# Altium integrated library Linear Technology Power Management Battery Management.IntLib: 626 symbols (part 40 of 56)
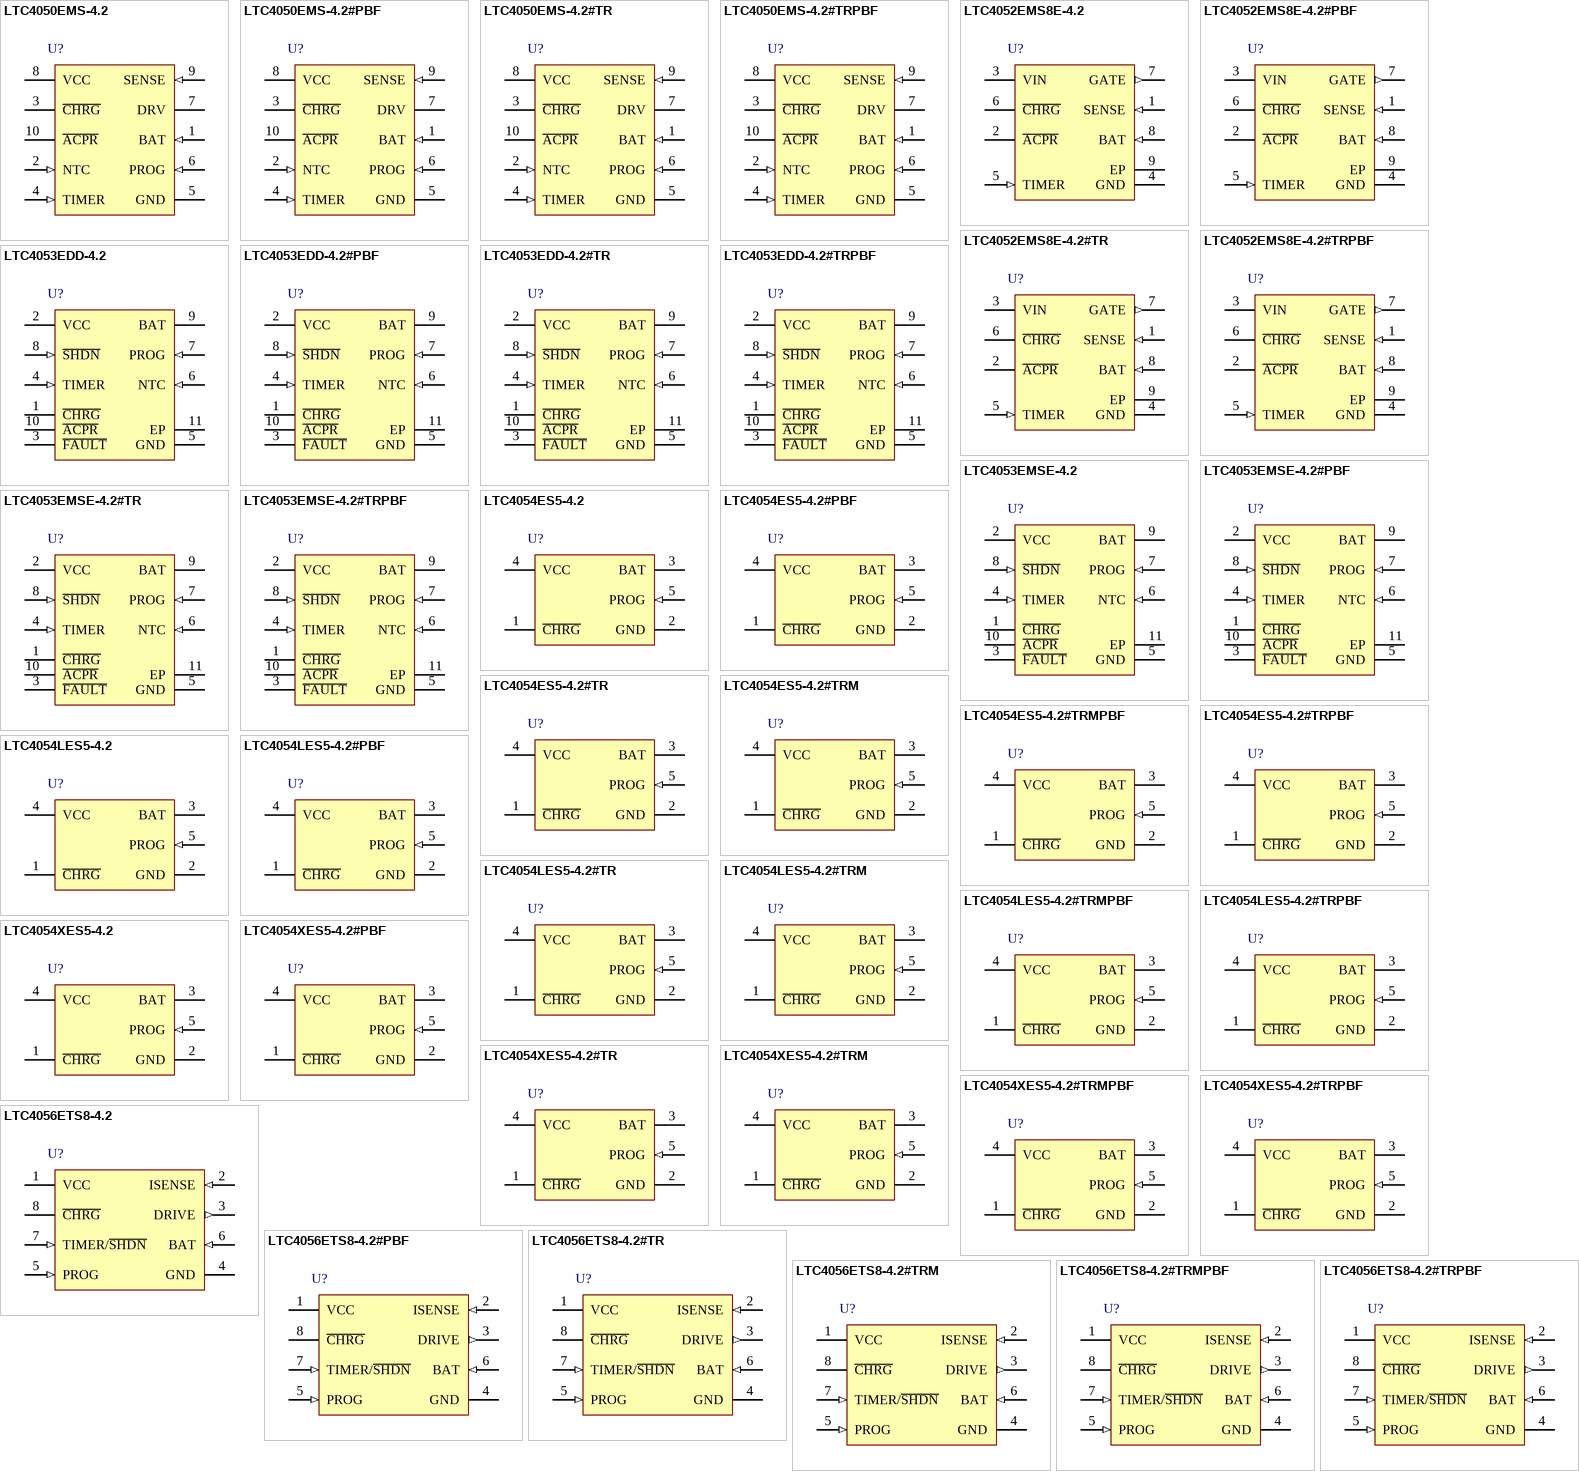
[diagram p61: symbols LTC4050EMS-4.2 to LTC4056ETS8-4.2#TRPBF]

## LTC4056ETS8-4.2#TR
designator U?
No Charging Interruption Due to Input Voltage Fluctuation, 4.5 to 6.5 V Vin, 8-pin SOT23 (TS8-8), -40 to 85 degC, Tape and Reel; Manufacturer: Linear Technology; PartNumber: LTC4056ETS8-4.2#TR; Battery Chemistry: Li-Ion, Li-Polymer; Charge Termination: On-board timer; Float Voltage: 4.2 V; Max Charge Current(A): 0.7; Number of Cells: 1; Type of Charger: Linear; Vin Max(V): 6.5; Vin Min(V): 4.5; PackageVersion: Rev. A, 08/2010; PackageReference: TS8-8; PackageDescription: 8-Pin Plastic TSOT-23, Body 2.9 x 1.63 mm, Pitch 0.65 mm; Supplier 1: Digi-Key; Supplier Part Number 1: LTC4056ETS8-4.2TR-ND; Packing: Tape and Reel; RoHS: FALSE; Mounting Technology: Surface Mount; Code_JEDEC: MO-193; ComponentLink1Description: Manufacturer URL; ComponentLink1URL: http://www.linear.com/; ComponentLink2Description: Datasheet; ComponentLink2URL: http://cds.linear.com/docs/en/datasheet/405642f.pdf; ComponentLink3Description: Package Specification; ComponentLink3URL: http://cds.linear.com/docs/en/packaging/SOT_8_05-08-1637.pdf
footprint LT-TS8-8-TSOT-23_V (SOT23, 8-Leads, Body 2.9x1.75mm, Pitch 0.65mm)
pins: 1 VCC (power) "Positive Input Supply Voltage. This pin supplies power to the internal control circuitry and external PNP transistor through the internal current sense resistor. This pin should be bypassed to ground with a capacitor in the (See Datasheet)", 2 ISENSE (in) "Sense Node for Charge Current. Current from VCC passes through the internal current sense resistor and out of the ISENSE pin to supply current to the emitter of the external PNP transistor. The collector of the PNP provides (See Datasheet)", 3 DRIVE (out) "Base Drive Output for the External PNP Pass Transistor. Provides a controlled sink current to drive the base of the PNP. This pin has current limiting protection.", 4 GND (power) "Ground. Provides a reference for the internal voltage regulator and a return for all internal circuits. When in the constant voltage mode, the LTC4056 will precisely regulate the voltage between the BAT and GND pins. The (See Datasheet)", 5 PROG (in) "Charge Current Programming Pin. Provides a virtual reference voltage of 1V for an external nesistor (RPROG) connected between this pin and ground to program the battery charge current. In constant current mode the typical (See Datasheet)", 6 BAT (in) "Battery Voltage Sense Input. A precision internal resistor divider sets the final float voltage on this pin. This divider is disconnected in the manual shutdown or sleep mode. No bypass capacitance is needed on this pin for (See Datasheet)", 7 TIMER/~{SHDN} (in) "Programmable Charge Termination Timer and Shutdown Input. Pulling this pin below the shutdown threshold voltage will shut down the charger reducing the supply current to approximately 40uA and the battery drain current to (See Datasheet)", 8 ~{CHRG} (hiz) "Open-Drain Charge Status Output. When the battery is being charged, the C\H\R\G\ pin is pulled low by an internal N-channel MOSFET. When the timer has timed out (terminating the charge cycle) or when the LTC4056 is in (See Datasheet)"

## LTC4056ETS8-4.2#TRM
designator U?
No Charging Interruption Due to Input Voltage Fluctuation, 4.5 to 6.5 V Vin, 8-pin SOT23 (TS8-8), -40 to 85 degC, Mini Tape and Reel; Manufacturer: Linear Technology; PartNumber: LTC4056ETS8-4.2#TRM; Battery Chemistry: Li-Ion, Li-Polymer; Charge Termination: On-board timer; Float Voltage: 4.2 V; Max Charge Current(A): 0.7; Number of Cells: 1; Type of Charger: Linear; Vin Max(V): 6.5; Vin Min(V): 4.5; PackageVersion: Rev. A, 08/2010; PackageReference: TS8-8; PackageDescription: 8-Pin Plastic TSOT-23, Body 2.9 x 1.63 mm, Pitch 0.65 mm; Supplier 1: Digi-Key; Supplier Part Number 1: LTC4056ETS8-4.2#TRM-ND; Packing: Mini Tape and Reel; RoHS: FALSE; Mounting Technology: Surface Mount; Code_JEDEC: MO-193; ComponentLink1Description: Manufacturer URL; ComponentLink1URL: http://www.linear.com/; ComponentLink2Description: Datasheet; ComponentLink2URL: http://cds.linear.com/docs/en/datasheet/405642f.pdf; ComponentLink3Description: Package Specification; ComponentLink3URL: http://cds.linear.com/docs/en/packaging/SOT_8_05-08-1637.pdf
footprint LT-TS8-8-TSOT-23_V (SOT23, 8-Leads, Body 2.9x1.75mm, Pitch 0.65mm)
pins: 1 VCC (power) "Positive Input Supply Voltage. This pin supplies power to the internal control circuitry and external PNP transistor through the internal current sense resistor. This pin should be bypassed to ground with a capacitor in the (See Datasheet)", 2 ISENSE (in) "Sense Node for Charge Current. Current from VCC passes through the internal current sense resistor and out of the ISENSE pin to supply current to the emitter of the external PNP transistor. The collector of the PNP provides (See Datasheet)", 3 DRIVE (out) "Base Drive Output for the External PNP Pass Transistor. Provides a controlled sink current to drive the base of the PNP. This pin has current limiting protection.", 4 GND (power) "Ground. Provides a reference for the internal voltage regulator and a return for all internal circuits. When in the constant voltage mode, the LTC4056 will precisely regulate the voltage between the BAT and GND pins. The (See Datasheet)", 5 PROG (in) "Charge Current Programming Pin. Provides a virtual reference voltage of 1V for an external nesistor (RPROG) connected between this pin and ground to program the battery charge current. In constant current mode the typical (See Datasheet)", 6 BAT (in) "Battery Voltage Sense Input. A precision internal resistor divider sets the final float voltage on this pin. This divider is disconnected in the manual shutdown or sleep mode. No bypass capacitance is needed on this pin for (See Datasheet)", 7 TIMER/~{SHDN} (in) "Programmable Charge Termination Timer and Shutdown Input. Pulling this pin below the shutdown threshold voltage will shut down the charger reducing the supply current to approximately 40uA and the battery drain current to (See Datasheet)", 8 ~{CHRG} (hiz) "Open-Drain Charge Status Output. When the battery is being charged, the C\H\R\G\ pin is pulled low by an internal N-channel MOSFET. When the timer has timed out (terminating the charge cycle) or when the LTC4056 is in (See Datasheet)"

## LTC4056ETS8-4.2#TRMPBF
designator U?
No Charging Interruption Due to Input Voltage Fluctuation, 4.5 to 6.5 V Vin, 8-pin SOT23 (TS8-8), -40 to 85 degC, Pb-Free, Mini Tape and Reel; Manufacturer: Linear Technology; PartNumber: LTC4056ETS8-4.2#TRMPBF; Battery Chemistry: Li-Ion, Li-Polymer; Charge Termination: On-board timer; Float Voltage: 4.2 V; Max Charge Current(A): 0.7; Number of Cells: 1; Type of Charger: Linear; Vin Max(V): 6.5; Vin Min(V): 4.5; PackageVersion: Rev. A, 08/2010; PackageReference: TS8-8; PackageDescription: 8-Pin Plastic TSOT-23, Body 2.9 x 1.63 mm, Pitch 0.65 mm; Supplier 1: Digi-Key; Supplier Part Number 1: LTC4056ETS8-4.2#TRMPBF-ND; Supplier 2: Newark; Supplier Part Number 2: 58M0867; Packing: Mini Tape and Reel; RoHS: TRUE; Mounting Technology: Surface Mount; Code_JEDEC: MO-193; ComponentLink1Description: Manufacturer URL; ComponentLink1URL: http://www.linear.com/; ComponentLink2Description: Datasheet; ComponentLink2URL: http://cds.linear.com/docs/en/datasheet/405642f.pdf; ComponentLink3Description: Package Specification; ComponentLink3URL: http://cds.linear.com/docs/en/packaging/SOT_8_05-08-1637.pdf
footprint LT-TS8-8-TSOT-23_V (SOT23, 8-Leads, Body 2.9x1.75mm, Pitch 0.65mm)
pins: 1 VCC (power) "Positive Input Supply Voltage. This pin supplies power to the internal control circuitry and external PNP transistor through the internal current sense resistor. This pin should be bypassed to ground with a capacitor in the (See Datasheet)", 2 ISENSE (in) "Sense Node for Charge Current. Current from VCC passes through the internal current sense resistor and out of the ISENSE pin to supply current to the emitter of the external PNP transistor. The collector of the PNP provides (See Datasheet)", 3 DRIVE (out) "Base Drive Output for the External PNP Pass Transistor. Provides a controlled sink current to drive the base of the PNP. This pin has current limiting protection.", 4 GND (power) "Ground. Provides a reference for the internal voltage regulator and a return for all internal circuits. When in the constant voltage mode, the LTC4056 will precisely regulate the voltage between the BAT and GND pins. The (See Datasheet)", 5 PROG (in) "Charge Current Programming Pin. Provides a virtual reference voltage of 1V for an external nesistor (RPROG) connected between this pin and ground to program the battery charge current. In constant current mode the typical (See Datasheet)", 6 BAT (in) "Battery Voltage Sense Input. A precision internal resistor divider sets the final float voltage on this pin. This divider is disconnected in the manual shutdown or sleep mode. No bypass capacitance is needed on this pin for (See Datasheet)", 7 TIMER/~{SHDN} (in) "Programmable Charge Termination Timer and Shutdown Input. Pulling this pin below the shutdown threshold voltage will shut down the charger reducing the supply current to approximately 40uA and the battery drain current to (See Datasheet)", 8 ~{CHRG} (hiz) "Open-Drain Charge Status Output. When the battery is being charged, the C\H\R\G\ pin is pulled low by an internal N-channel MOSFET. When the timer has timed out (terminating the charge cycle) or when the LTC4056 is in (See Datasheet)"

## LTC4056ETS8-4.2#TRPBF
designator U?
No Charging Interruption Due to Input Voltage Fluctuation, 4.5 to 6.5 V Vin, 8-pin SOT23 (TS8-8), -40 to 85 degC, Pb-Free, Tape and Reel; Manufacturer: Linear Technology; PartNumber: LTC4056ETS8-4.2#TRPBF; Battery Chemistry: Li-Ion, Li-Polymer; Charge Termination: On-board timer; Float Voltage: 4.2 V; Max Charge Current(A): 0.7; Number of Cells: 1; Type of Charger: Linear; Vin Max(V): 6.5; Vin Min(V): 4.5; PackageVersion: Rev. A, 08/2010; PackageReference: TS8-8; PackageDescription: 8-Pin Plastic TSOT-23, Body 2.9 x 1.63 mm, Pitch 0.65 mm; Supplier 1: Digi-Key; Supplier Part Number 1: LTC4056ETS8-4.2#TRPBF-ND; Packing: Tape and Reel; RoHS: TRUE; Mounting Technology: Surface Mount; Code_JEDEC: MO-193; ComponentLink1Description: Manufacturer URL; ComponentLink1URL: http://www.linear.com/; ComponentLink2Description: Datasheet; ComponentLink2URL: http://cds.linear.com/docs/en/datasheet/405642f.pdf; ComponentLink3Description: Package Specification; ComponentLink3URL: http://cds.linear.com/docs/en/packaging/SOT_8_05-08-1637.pdf
footprint LT-TS8-8-TSOT-23_V (SOT23, 8-Leads, Body 2.9x1.75mm, Pitch 0.65mm)
pins: 1 VCC (power) "Positive Input Supply Voltage. This pin supplies power to the internal control circuitry and external PNP transistor through the internal current sense resistor. This pin should be bypassed to ground with a capacitor in the (See Datasheet)", 2 ISENSE (in) "Sense Node for Charge Current. Current from VCC passes through the internal current sense resistor and out of the ISENSE pin to supply current to the emitter of the external PNP transistor. The collector of the PNP provides (See Datasheet)", 3 DRIVE (out) "Base Drive Output for the External PNP Pass Transistor. Provides a controlled sink current to drive the base of the PNP. This pin has current limiting protection.", 4 GND (power) "Ground. Provides a reference for the internal voltage regulator and a return for all internal circuits. When in the constant voltage mode, the LTC4056 will precisely regulate the voltage between the BAT and GND pins. The (See Datasheet)", 5 PROG (in) "Charge Current Programming Pin. Provides a virtual reference voltage of 1V for an external nesistor (RPROG) connected between this pin and ground to program the battery charge current. In constant current mode the typical (See Datasheet)", 6 BAT (in) "Battery Voltage Sense Input. A precision internal resistor divider sets the final float voltage on this pin. This divider is disconnected in the manual shutdown or sleep mode. No bypass capacitance is needed on this pin for (See Datasheet)", 7 TIMER/~{SHDN} (in) "Programmable Charge Termination Timer and Shutdown Input. Pulling this pin below the shutdown threshold voltage will shut down the charger reducing the supply current to approximately 40uA and the battery drain current to (See Datasheet)", 8 ~{CHRG} (hiz) "Open-Drain Charge Status Output. When the battery is being charged, the C\H\R\G\ pin is pulled low by an internal N-channel MOSFET. When the timer has timed out (terminating the charge cycle) or when the LTC4056 is in (See Datasheet)"

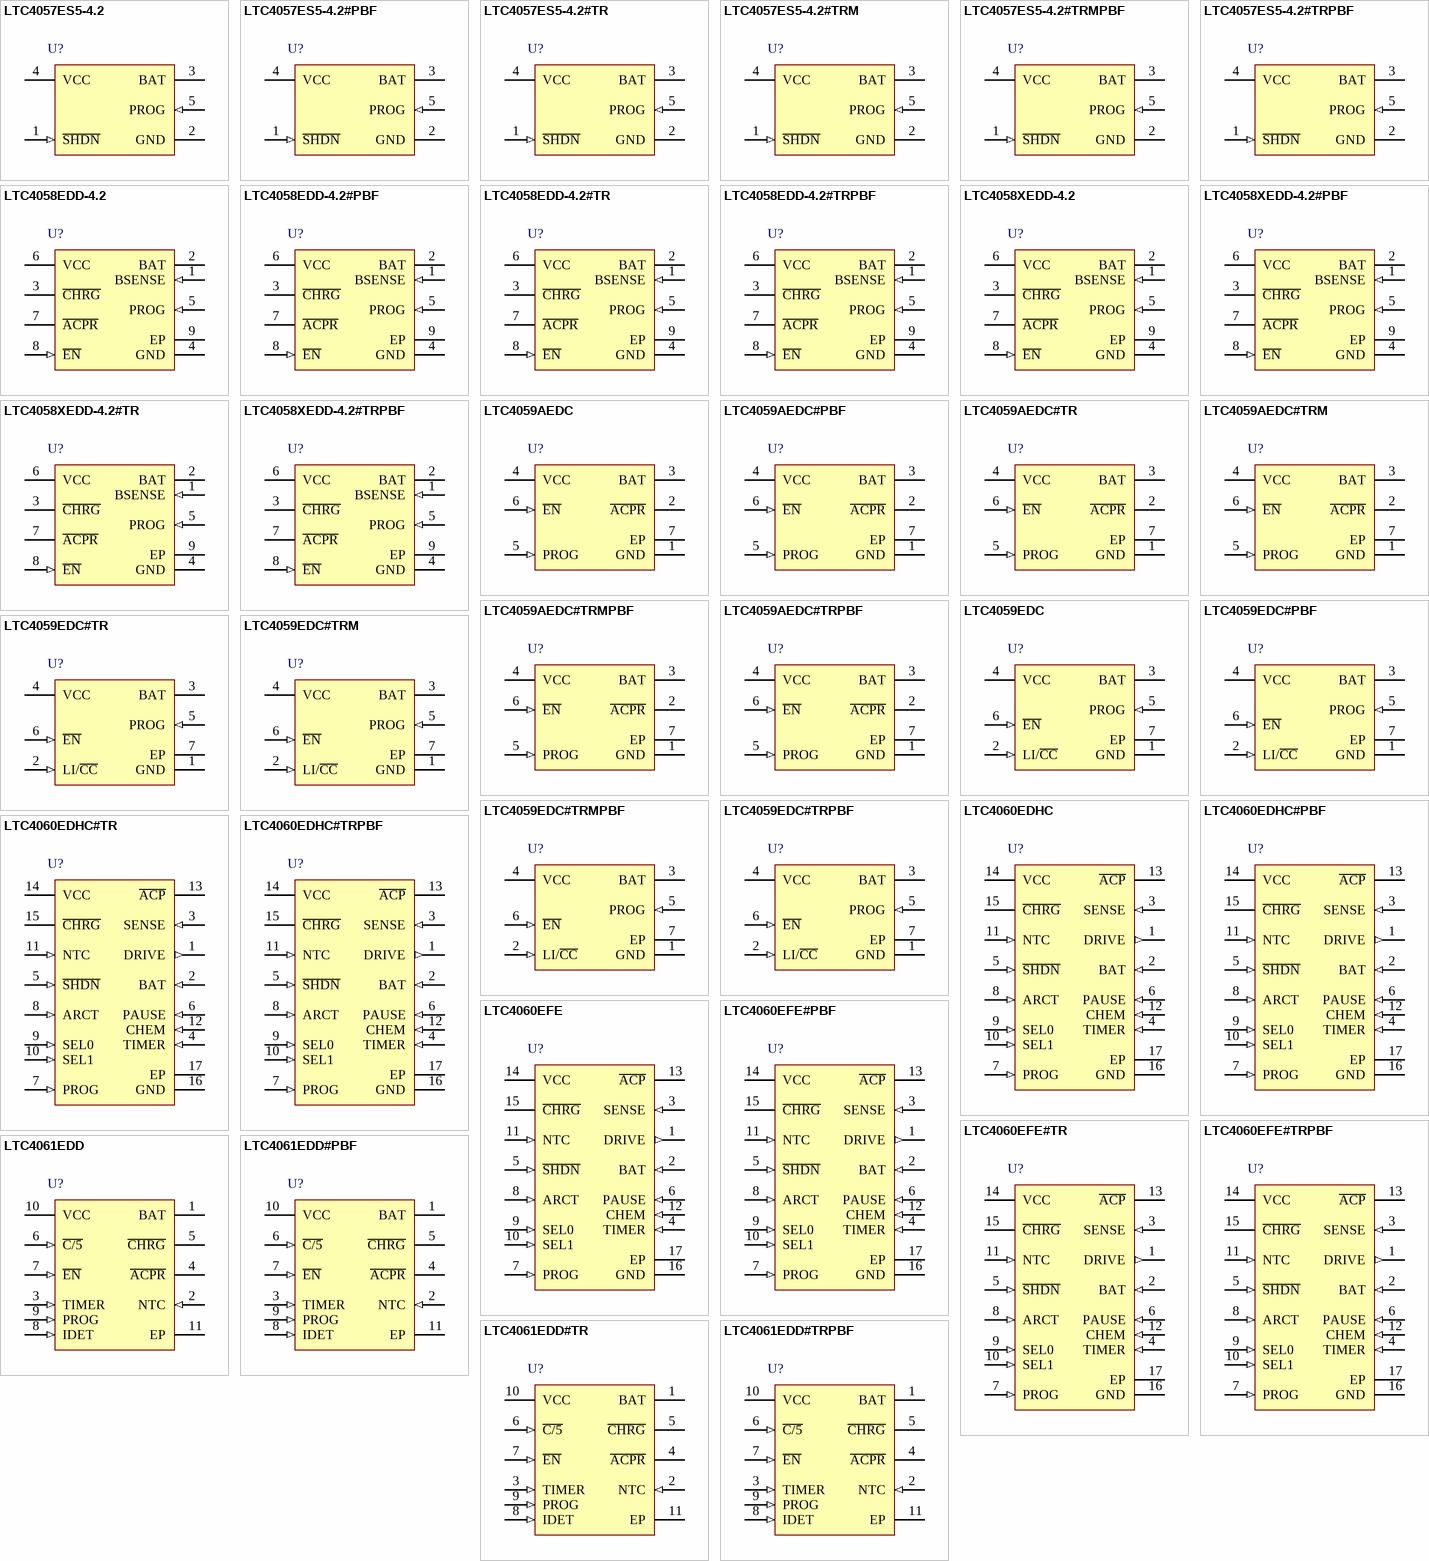
[diagram p16: symbols LTC4057ES5-4.2 to LTC4061EDD#TRPBF]

## LTC4057ES5-4.2
designator U?
Linear Li-Ion Battery Charger with Thermal Regulation, 4.25 to 6.5 V Vin, 5-pin SOT23 (S5-5), -40 to 85 degC; Manufacturer: Linear Technology; PartNumber: LTC4057ES5-4.2; Battery Chemistry: Li-Ion, Li-Polymer; Charge Termination: Microcontroller; Float Voltage: 4.2 V; Max Charge Current(A): 0.8; Number of Cells: 1; Vin Max(V): 6.5; Vin Min(V): 4.25; PackageVersion: Jun-10; PackageReference: S5-5; PackageDescription: 5-Pin Plastic TSOT-23, Body 1.63 x 2.90 mm, Pitch 0.95 mm; RoHS: FALSE; Type of Charger: Linear; Mounting Technology: Surface Mount; Code_JEDEC: MO-193; ComponentLink1Description: Manufacturer URL; ComponentLink1URL: http://www.linear.com/; ComponentLink2Description: Datasheet; ComponentLink2URL: http://cds.linear.com/docs/en/datasheet/4057f.pdf; ComponentLink3Description: Package Specification; ComponentLink3URL: http://cds.linear.com/docs/en/packaging/SOT_5_05-08-1635.pdf
footprint LT-S5-5-TSOT-23_N (SOT23, 5-Leads, Body 2.90x1.63mm, Pitch 0.95mm, IPC Medium Density)
footprint LT-S5-5-TSOT-23_L (SOT23, 5-Leads, Body 2.90x1.63mm, Pitch 0.95mm, IPC High Density)
footprint LT-S5-5-TSOT-23_M (SOT23, 5-Leads, Body 2.90x1.63mm, Pitch 0.95mm, IPC Low Density)
pins: 1 ~{SHDN} (in) "Shutdown Input. Pulling this pin low puts the LTC4057 in shutdown mode, thus stopping the charge current. In shutdown mode, the input supply current drops to 25uA and the battery drain current drops to less than 2uA. This (See Datasheet)", 2 GND (power) "Ground.", 3 BAT (power) "Charge Current Output. Provides charge current to the battery and regulates the final float voltage to 4.2V. An internal precision resistor divider from this pin sets the float voltage which is disconnected in shutdown mode.", 4 VCC (power) "Positive Input Supply Voltage. Provides power to the charger. VCC can range from 4.25V to 6.5V and should be bypassed with at least a 1uF capacitor. When VCC drops to within 30mV of the BAT pin voltage, the LTC4057 enters (See Datasheet)", 5 PROG (in) "Charge Current Program and Charge Current Monitor Pin. The charge current is programmed by connecting a 1% resistor, RPROG, to ground. When charging in constant-current mode, this pin servos to 1V. In all modes, the voltage (See Datasheet)"

## LTC4057ES5-4.2#PBF
designator U?
Linear Li-Ion Battery Charger with Thermal Regulation, 4.25 to 6.5 V Vin, 5-pin SOT23 (S5-5), -40 to 85 degC, Pb-Free; Manufacturer: Linear Technology; PartNumber: LTC4057ES5-4.2#PBF; Battery Chemistry: Li-Ion, Li-Polymer; Charge Termination: Microcontroller; Float Voltage: 4.2 V; Max Charge Current(A): 0.8; Number of Cells: 1; Vin Max(V): 6.5; Vin Min(V): 4.25; PackageVersion: Jun-10; PackageReference: S5-5; PackageDescription: 5-Pin Plastic TSOT-23, Body 1.63 x 2.90 mm, Pitch 0.95 mm; RoHS: TRUE; Type of Charger: Linear; Mounting Technology: Surface Mount; Code_JEDEC: MO-193; ComponentLink1Description: Manufacturer URL; ComponentLink1URL: http://www.linear.com/; ComponentLink2Description: Datasheet; ComponentLink2URL: http://cds.linear.com/docs/en/datasheet/4057f.pdf; ComponentLink3Description: Package Specification; ComponentLink3URL: http://cds.linear.com/docs/en/packaging/SOT_5_05-08-1635.pdf
footprint LT-S5-5-TSOT-23_N (SOT23, 5-Leads, Body 2.90x1.63mm, Pitch 0.95mm, IPC Medium Density)
footprint LT-S5-5-TSOT-23_L (SOT23, 5-Leads, Body 2.90x1.63mm, Pitch 0.95mm, IPC High Density)
footprint LT-S5-5-TSOT-23_M (SOT23, 5-Leads, Body 2.90x1.63mm, Pitch 0.95mm, IPC Low Density)
pins: 1 ~{SHDN} (in) "Shutdown Input. Pulling this pin low puts the LTC4057 in shutdown mode, thus stopping the charge current. In shutdown mode, the input supply current drops to 25uA and the battery drain current drops to less than 2uA. This (See Datasheet)", 2 GND (power) "Ground.", 3 BAT (power) "Charge Current Output. Provides charge current to the battery and regulates the final float voltage to 4.2V. An internal precision resistor divider from this pin sets the float voltage which is disconnected in shutdown mode.", 4 VCC (power) "Positive Input Supply Voltage. Provides power to the charger. VCC can range from 4.25V to 6.5V and should be bypassed with at least a 1uF capacitor. When VCC drops to within 30mV of the BAT pin voltage, the LTC4057 enters (See Datasheet)", 5 PROG (in) "Charge Current Program and Charge Current Monitor Pin. The charge current is programmed by connecting a 1% resistor, RPROG, to ground. When charging in constant-current mode, this pin servos to 1V. In all modes, the voltage (See Datasheet)"

## LTC4057ES5-4.2#TR
designator U?
Linear Li-Ion Battery Charger with Thermal Regulation, 4.25 to 6.5 V Vin, 5-pin SOT23 (S5-5), -40 to 85 degC, Tape and Reel; Manufacturer: Linear Technology; PartNumber: LTC4057ES5-4.2#TR; Battery Chemistry: Li-Ion, Li-Polymer; Charge Termination: Microcontroller; Float Voltage: 4.2 V; Max Charge Current(A): 0.8; Number of Cells: 1; Vin Max(V): 6.5; Vin Min(V): 4.25; PackageVersion: Jun-10; PackageReference: S5-5; PackageDescription: 5-Pin Plastic TSOT-23, Body 1.63 x 2.90 mm, Pitch 0.95 mm; Supplier 1: Digi-Key; Supplier Part Number 1: LTC4057ES5-4.2#TR-ND; Packing: Tape and Reel; RoHS: FALSE; Type of Charger: Linear; Mounting Technology: Surface Mount; Code_JEDEC: MO-193; ComponentLink1Description: Manufacturer URL; ComponentLink1URL: http://www.linear.com/; ComponentLink2Description: Datasheet; ComponentLink2URL: http://cds.linear.com/docs/en/datasheet/4057f.pdf; ComponentLink3Description: Package Specification; ComponentLink3URL: http://cds.linear.com/docs/en/packaging/SOT_5_05-08-1635.pdf
footprint LT-S5-5-TSOT-23_N (SOT23, 5-Leads, Body 2.90x1.63mm, Pitch 0.95mm, IPC Medium Density)
footprint LT-S5-5-TSOT-23_L (SOT23, 5-Leads, Body 2.90x1.63mm, Pitch 0.95mm, IPC High Density)
footprint LT-S5-5-TSOT-23_M (SOT23, 5-Leads, Body 2.90x1.63mm, Pitch 0.95mm, IPC Low Density)
pins: 1 ~{SHDN} (in) "Shutdown Input. Pulling this pin low puts the LTC4057 in shutdown mode, thus stopping the charge current. In shutdown mode, the input supply current drops to 25uA and the battery drain current drops to less than 2uA. This (See Datasheet)", 2 GND (power) "Ground.", 3 BAT (power) "Charge Current Output. Provides charge current to the battery and regulates the final float voltage to 4.2V. An internal precision resistor divider from this pin sets the float voltage which is disconnected in shutdown mode.", 4 VCC (power) "Positive Input Supply Voltage. Provides power to the charger. VCC can range from 4.25V to 6.5V and should be bypassed with at least a 1uF capacitor. When VCC drops to within 30mV of the BAT pin voltage, the LTC4057 enters (See Datasheet)", 5 PROG (in) "Charge Current Program and Charge Current Monitor Pin. The charge current is programmed by connecting a 1% resistor, RPROG, to ground. When charging in constant-current mode, this pin servos to 1V. In all modes, the voltage (See Datasheet)"

## LTC4057ES5-4.2#TRM
designator U?
Linear Li-Ion Battery Charger with Thermal Regulation, 4.25 to 6.5 V Vin, 5-pin SOT23 (S5-5), -40 to 85 degC, Mini Tape and Reel; Manufacturer: Linear Technology; PartNumber: LTC4057ES5-4.2#TRM; Battery Chemistry: Li-Ion, Li-Polymer; Charge Termination: Microcontroller; Float Voltage: 4.2 V; Max Charge Current(A): 0.8; Number of Cells: 1; Vin Max(V): 6.5; Vin Min(V): 4.25; PackageVersion: Jun-10; PackageReference: S5-5; PackageDescription: 5-Pin Plastic TSOT-23, Body 1.63 x 2.90 mm, Pitch 0.95 mm; Supplier 1: Digi-Key; Supplier Part Number 1: LTC4057ES5-4.2#TRM-ND; Packing: Mini Tape and Reel; RoHS: FALSE; Type of Charger: Linear; Mounting Technology: Surface Mount; Code_JEDEC: MO-193; ComponentLink1Description: Manufacturer URL; ComponentLink1URL: http://www.linear.com/; ComponentLink2Description: Datasheet; ComponentLink2URL: http://cds.linear.com/docs/en/datasheet/4057f.pdf; ComponentLink3Description: Package Specification; ComponentLink3URL: http://cds.linear.com/docs/en/packaging/SOT_5_05-08-1635.pdf
footprint LT-S5-5-TSOT-23_N (SOT23, 5-Leads, Body 2.90x1.63mm, Pitch 0.95mm, IPC Medium Density)
footprint LT-S5-5-TSOT-23_L (SOT23, 5-Leads, Body 2.90x1.63mm, Pitch 0.95mm, IPC High Density)
footprint LT-S5-5-TSOT-23_M (SOT23, 5-Leads, Body 2.90x1.63mm, Pitch 0.95mm, IPC Low Density)
pins: 1 ~{SHDN} (in) "Shutdown Input. Pulling this pin low puts the LTC4057 in shutdown mode, thus stopping the charge current. In shutdown mode, the input supply current drops to 25uA and the battery drain current drops to less than 2uA. This (See Datasheet)", 2 GND (power) "Ground.", 3 BAT (power) "Charge Current Output. Provides charge current to the battery and regulates the final float voltage to 4.2V. An internal precision resistor divider from this pin sets the float voltage which is disconnected in shutdown mode.", 4 VCC (power) "Positive Input Supply Voltage. Provides power to the charger. VCC can range from 4.25V to 6.5V and should be bypassed with at least a 1uF capacitor. When VCC drops to within 30mV of the BAT pin voltage, the LTC4057 enters (See Datasheet)", 5 PROG (in) "Charge Current Program and Charge Current Monitor Pin. The charge current is programmed by connecting a 1% resistor, RPROG, to ground. When charging in constant-current mode, this pin servos to 1V. In all modes, the voltage (See Datasheet)"

## LTC4057ES5-4.2#TRMPBF
designator U?
Linear Li-Ion Battery Charger with Thermal Regulation, 4.25 to 6.5 V Vin, 5-pin SOT23 (S5-5), -40 to 85 degC, Pb-Free, Mini Tape and Reel; Manufacturer: Linear Technology; PartNumber: LTC4057ES5-4.2#TRMPBF; Battery Chemistry: Li-Ion, Li-Polymer; Charge Termination: Microcontroller; Float Voltage: 4.2 V; Max Charge Current(A): 0.8; Number of Cells: 1; Vin Max(V): 6.5; Vin Min(V): 4.25; PackageVersion: Jun-10; PackageReference: S5-5; PackageDescription: 5-Pin Plastic TSOT-23, Body 1.63 x 2.90 mm, Pitch 0.95 mm; Supplier 1: Digi-Key; Supplier Part Number 1: LTC4057ES5-4.2#TRMPBF-ND; Supplier 2: Newark; Supplier Part Number 2: 58M0871; Packing: Mini Tape and Reel; RoHS: TRUE; Type of Charger: Linear; Mounting Technology: Surface Mount; Code_JEDEC: MO-193; ComponentLink1Description: Manufacturer URL; ComponentLink1URL: http://www.linear.com/; ComponentLink2Description: Datasheet; ComponentLink2URL: http://cds.linear.com/docs/en/datasheet/4057f.pdf; ComponentLink3Description: Package Specification; ComponentLink3URL: http://cds.linear.com/docs/en/packaging/SOT_5_05-08-1635.pdf
footprint LT-S5-5-TSOT-23_N (SOT23, 5-Leads, Body 2.90x1.63mm, Pitch 0.95mm, IPC Medium Density)
footprint LT-S5-5-TSOT-23_L (SOT23, 5-Leads, Body 2.90x1.63mm, Pitch 0.95mm, IPC High Density)
footprint LT-S5-5-TSOT-23_M (SOT23, 5-Leads, Body 2.90x1.63mm, Pitch 0.95mm, IPC Low Density)
pins: 1 ~{SHDN} (in) "Shutdown Input. Pulling this pin low puts the LTC4057 in shutdown mode, thus stopping the charge current. In shutdown mode, the input supply current drops to 25uA and the battery drain current drops to less than 2uA. This (See Datasheet)", 2 GND (power) "Ground.", 3 BAT (power) "Charge Current Output. Provides charge current to the battery and regulates the final float voltage to 4.2V. An internal precision resistor divider from this pin sets the float voltage which is disconnected in shutdown mode.", 4 VCC (power) "Positive Input Supply Voltage. Provides power to the charger. VCC can range from 4.25V to 6.5V and should be bypassed with at least a 1uF capacitor. When VCC drops to within 30mV of the BAT pin voltage, the LTC4057 enters (See Datasheet)", 5 PROG (in) "Charge Current Program and Charge Current Monitor Pin. The charge current is programmed by connecting a 1% resistor, RPROG, to ground. When charging in constant-current mode, this pin servos to 1V. In all modes, the voltage (See Datasheet)"

## LTC4057ES5-4.2#TRPBF
designator U?
Linear Li-Ion Battery Charger with Thermal Regulation, 4.25 to 6.5 V Vin, 5-pin SOT23 (S5-5), -40 to 85 degC, Pb-Free, Tape and Reel; Manufacturer: Linear Technology; PartNumber: LTC4057ES5-4.2#TRPBF; Battery Chemistry: Li-Ion, Li-Polymer; Charge Termination: Microcontroller; Float Voltage: 4.2 V; Max Charge Current(A): 0.8; Number of Cells: 1; Vin Max(V): 6.5; Vin Min(V): 4.25; PackageVersion: Jun-10; PackageReference: S5-5; PackageDescription: 5-Pin Plastic TSOT-23, Body 1.63 x 2.90 mm, Pitch 0.95 mm; Supplier 1: Digi-Key; Supplier Part Number 1: LTC4057ES5-4.2#TRPBF-ND; Packing: Tape and Reel; RoHS: TRUE; Type of Charger: Linear; Mounting Technology: Surface Mount; Code_JEDEC: MO-193; ComponentLink1Description: Manufacturer URL; ComponentLink1URL: http://www.linear.com/; ComponentLink2Description: Datasheet; ComponentLink2URL: http://cds.linear.com/docs/en/datasheet/4057f.pdf; ComponentLink3Description: Package Specification; ComponentLink3URL: http://cds.linear.com/docs/en/packaging/SOT_5_05-08-1635.pdf
footprint LT-S5-5-TSOT-23_N (SOT23, 5-Leads, Body 2.90x1.63mm, Pitch 0.95mm, IPC Medium Density)
footprint LT-S5-5-TSOT-23_L (SOT23, 5-Leads, Body 2.90x1.63mm, Pitch 0.95mm, IPC High Density)
footprint LT-S5-5-TSOT-23_M (SOT23, 5-Leads, Body 2.90x1.63mm, Pitch 0.95mm, IPC Low Density)
pins: 1 ~{SHDN} (in) "Shutdown Input. Pulling this pin low puts the LTC4057 in shutdown mode, thus stopping the charge current. In shutdown mode, the input supply current drops to 25uA and the battery drain current drops to less than 2uA. This (See Datasheet)", 2 GND (power) "Ground.", 3 BAT (power) "Charge Current Output. Provides charge current to the battery and regulates the final float voltage to 4.2V. An internal precision resistor divider from this pin sets the float voltage which is disconnected in shutdown mode.", 4 VCC (power) "Positive Input Supply Voltage. Provides power to the charger. VCC can range from 4.25V to 6.5V and should be bypassed with at least a 1uF capacitor. When VCC drops to within 30mV of the BAT pin voltage, the LTC4057 enters (See Datasheet)", 5 PROG (in) "Charge Current Program and Charge Current Monitor Pin. The charge current is programmed by connecting a 1% resistor, RPROG, to ground. When charging in constant-current mode, this pin servos to 1V. In all modes, the voltage (See Datasheet)"

## LTC4058EDD-4.2
designator U?
Standalone Linear Li-Ion Battery Charger with Thermal Regulation, 4.25 to 6.5 V Vin, 8-pin SON (DD-8), -40 to 85 degC; Manufacturer: Linear Technology; PartNumber: LTC4058EDD-4.2; Battery Chemistry: Li-Ion, Li-Polymer; Charge Termination: C/10; Float Voltage: 4.2 V; Max Charge Current(A): 0.95; Number of Cells: 1; Vin Max(V): 6.5; Vin Min(V): 4.25; PackageVersion: Jun-10; PackageReference: DD-8; PackageDescription: 8-Pin Plastic DFN, Body 3 x 3 mm, Pitch 0.5 mm; Supplier 1: Digi-Key; Supplier Part Number 1: LTC4058EDD-4.2-ND; RoHS: FALSE; Type of Charger: Linear; Mounting Technology: Surface Mount; Code_JEDEC: MO-229; ComponentLink1Description: Manufacturer URL; ComponentLink1URL: http://www.linear.com/; ComponentLink2Description: Datasheet; ComponentLink2URL: http://cds.linear.com/docs/en/datasheet/405842fs.pdf; ComponentLink3Description: Package Specification; ComponentLink3URL: http://cds.linear.com/docs/en/packaging/DFN_8_05-08-1698.pdf
footprint LT-DD-8_V (SON, 8-Leads, Body 3x3mm, Pitch 0.5mm, Thermal Pad 1.65x2.38 mm)
pins: 1 BSENSE (in) "Battery Sense. This pin is used to Kelvin sense the positive battery terminal and regulate the final float voltage to 4.2V. An internal precision resistor divider sets this float voltage and is disconnected in shutdown mode. (See Datasheet)", 2 BAT (power) "Charge Current Output. Provides charge current to the battery from the internal P-channel MOSFET", 3 ~{CHRG} (hiz) "Charge Status Open-Drain Output. When the battery is charging, the C\H\R\G\ pin is pulled low by an internal N-channel MOSFET. When the charge cycle is completed, C\H\R\G\ becomes high impedance.", 4 GND (power) "Ground/Exposed Pad. The exposed backside of the package (Pin 9) is also ground and must be soldered to the PC board for maximum heat transfer.", 5 PROG (in) "Charge Current Program and Charge Current Monitor. Charge current is programmed by connecting a 1% resistor, RPROG, to ground. When charging in constant-current mode, this pin servos to 1V. In all modes,the voltage on this (See Datasheet)", 6 VCC (power) "Positive Input Supply Voltage. Provides power to the charger. VCC can range from 4.25V to 6.5V. This pin should be bypassed with at least a 1uF capacitor. When VCC is within 100mV of the BSENSE pin voltage, the LTC4058 (See Datasheet)", 7 ~{ACPR} (hiz) "Power Supply Status Open-Drain Output. When VCC is greater than the undervoltage lockout threshold and at least 100mV above VBSENSE, the A\C\P\R\ pin is pulled to ground; otherwise, the pin is high impedance.", 8 ~{EN} (in) "Enable Input . A logic high on the EN pin will put the LTC4058 into shutdown mode where the battery drain current is reduced to less than 2uA and the supply current is reduced to less than 50uA. A logic low or floating the (See Datasheet)", 9 EP (power) "Ground/Exposed Pad. The exposed backside of the package (Pin 9) is also ground and must be soldered to the PC board for maximum heat transfer."

## LTC4058EDD-4.2#PBF
designator U?
Standalone Linear Li-Ion Battery Charger with Thermal Regulation, 4.25 to 6.5 V Vin, 8-pin SON (DD-8), -40 to 85 degC, Pb-Free; Manufacturer: Linear Technology; PartNumber: LTC4058EDD-4.2#PBF; Battery Chemistry: Li-Ion, Li-Polymer; Charge Termination: C/10; Float Voltage: 4.2 V; Max Charge Current(A): 0.95; Number of Cells: 1; Vin Max(V): 6.5; Vin Min(V): 4.25; PackageVersion: Jun-10; PackageReference: DD-8; PackageDescription: 8-Pin Plastic DFN, Body 3 x 3 mm, Pitch 0.5 mm; Supplier 1: Digi-Key; Supplier Part Number 1: LTC4058EDD-4.2#PBF-ND; Supplier 2: Farnell; Supplier Part Number 2: 1648033; Supplier 3: Newark; Supplier Part Number 3: 58M0874; RoHS: TRUE; Type of Charger: Linear; Mounting Technology: Surface Mount; Code_JEDEC: MO-229; ComponentLink1Description: Manufacturer URL; ComponentLink1URL: http://www.linear.com/; ComponentLink2Description: Datasheet; ComponentLink2URL: http://cds.linear.com/docs/en/datasheet/405842fs.pdf; ComponentLink3Description: Package Specification; ComponentLink3URL: http://cds.linear.com/docs/en/packaging/DFN_8_05-08-1698.pdf
footprint LT-DD-8_V (SON, 8-Leads, Body 3x3mm, Pitch 0.5mm, Thermal Pad 1.65x2.38 mm)
pins: 1 BSENSE (in) "Battery Sense. This pin is used to Kelvin sense the positive battery terminal and regulate the final float voltage to 4.2V. An internal precision resistor divider sets this float voltage and is disconnected in shutdown mode. (See Datasheet)", 2 BAT (power) "Charge Current Output. Provides charge current to the battery from the internal P-channel MOSFET", 3 ~{CHRG} (hiz) "Charge Status Open-Drain Output. When the battery is charging, the C\H\R\G\ pin is pulled low by an internal N-channel MOSFET. When the charge cycle is completed, C\H\R\G\ becomes high impedance.", 4 GND (power) "Ground/Exposed Pad. The exposed backside of the package (Pin 9) is also ground and must be soldered to the PC board for maximum heat transfer.", 5 PROG (in) "Charge Current Program and Charge Current Monitor. Charge current is programmed by connecting a 1% resistor, RPROG, to ground. When charging in constant-current mode, this pin servos to 1V. In all modes,the voltage on this (See Datasheet)", 6 VCC (power) "Positive Input Supply Voltage. Provides power to the charger. VCC can range from 4.25V to 6.5V. This pin should be bypassed with at least a 1uF capacitor. When VCC is within 100mV of the BSENSE pin voltage, the LTC4058 (See Datasheet)", 7 ~{ACPR} (hiz) "Power Supply Status Open-Drain Output. When VCC is greater than the undervoltage lockout threshold and at least 100mV above VBSENSE, the A\C\P\R\ pin is pulled to ground; otherwise, the pin is high impedance.", 8 ~{EN} (in) "Enable Input . A logic high on the EN pin will put the LTC4058 into shutdown mode where the battery drain current is reduced to less than 2uA and the supply current is reduced to less than 50uA. A logic low or floating the (See Datasheet)", 9 EP (power) "Ground/Exposed Pad. The exposed backside of the package (Pin 9) is also ground and must be soldered to the PC board for maximum heat transfer."

## LTC4058EDD-4.2#TR
designator U?
Standalone Linear Li-Ion Battery Charger with Thermal Regulation, 4.25 to 6.5 V Vin, 8-pin SON (DD-8), -40 to 85 degC, Tape and Reel; Manufacturer: Linear Technology; PartNumber: LTC4058EDD-4.2#TR; Battery Chemistry: Li-Ion, Li-Polymer; Charge Termination: C/10; Float Voltage: 4.2 V; Max Charge Current(A): 0.95; Number of Cells: 1; Vin Max(V): 6.5; Vin Min(V): 4.25; PackageVersion: Jun-10; PackageReference: DD-8; PackageDescription: 8-Pin Plastic DFN, Body 3 x 3 mm, Pitch 0.5 mm; Supplier 1: Digi-Key; Supplier Part Number 1: LTC4058EDD-4.2#TR-ND; Packing: Tape and Reel; RoHS: FALSE; Type of Charger: Linear; Mounting Technology: Surface Mount; Code_JEDEC: MO-229; ComponentLink1Description: Manufacturer URL; ComponentLink1URL: http://www.linear.com/; ComponentLink2Description: Datasheet; ComponentLink2URL: http://cds.linear.com/docs/en/datasheet/405842fs.pdf; ComponentLink3Description: Package Specification; ComponentLink3URL: http://cds.linear.com/docs/en/packaging/DFN_8_05-08-1698.pdf
footprint LT-DD-8_V (SON, 8-Leads, Body 3x3mm, Pitch 0.5mm, Thermal Pad 1.65x2.38 mm)
pins: 1 BSENSE (in) "Battery Sense. This pin is used to Kelvin sense the positive battery terminal and regulate the final float voltage to 4.2V. An internal precision resistor divider sets this float voltage and is disconnected in shutdown mode. (See Datasheet)", 2 BAT (power) "Charge Current Output. Provides charge current to the battery from the internal P-channel MOSFET", 3 ~{CHRG} (hiz) "Charge Status Open-Drain Output. When the battery is charging, the C\H\R\G\ pin is pulled low by an internal N-channel MOSFET. When the charge cycle is completed, C\H\R\G\ becomes high impedance.", 4 GND (power) "Ground/Exposed Pad. The exposed backside of the package (Pin 9) is also ground and must be soldered to the PC board for maximum heat transfer.", 5 PROG (in) "Charge Current Program and Charge Current Monitor. Charge current is programmed by connecting a 1% resistor, RPROG, to ground. When charging in constant-current mode, this pin servos to 1V. In all modes,the voltage on this (See Datasheet)", 6 VCC (power) "Positive Input Supply Voltage. Provides power to the charger. VCC can range from 4.25V to 6.5V. This pin should be bypassed with at least a 1uF capacitor. When VCC is within 100mV of the BSENSE pin voltage, the LTC4058 (See Datasheet)", 7 ~{ACPR} (hiz) "Power Supply Status Open-Drain Output. When VCC is greater than the undervoltage lockout threshold and at least 100mV above VBSENSE, the A\C\P\R\ pin is pulled to ground; otherwise, the pin is high impedance.", 8 ~{EN} (in) "Enable Input . A logic high on the EN pin will put the LTC4058 into shutdown mode where the battery drain current is reduced to less than 2uA and the supply current is reduced to less than 50uA. A logic low or floating the (See Datasheet)", 9 EP (power) "Ground/Exposed Pad. The exposed backside of the package (Pin 9) is also ground and must be soldered to the PC board for maximum heat transfer."

## LTC4058EDD-4.2#TRPBF
designator U?
Standalone Linear Li-Ion Battery Charger with Thermal Regulation, 4.25 to 6.5 V Vin, 8-pin SON (DD-8), -40 to 85 degC, Pb-Free, Tape and Reel; Manufacturer: Linear Technology; PartNumber: LTC4058EDD-4.2#TRPBF; Battery Chemistry: Li-Ion, Li-Polymer; Charge Termination: C/10; Float Voltage: 4.2 V; Max Charge Current(A): 0.95; Number of Cells: 1; Vin Max(V): 6.5; Vin Min(V): 4.25; PackageVersion: Jun-10; PackageReference: DD-8; PackageDescription: 8-Pin Plastic DFN, Body 3 x 3 mm, Pitch 0.5 mm; Supplier 1: Digi-Key; Supplier Part Number 1: LTC4058EDD-4.2#TRPBF-ND; Packing: Tape and Reel; RoHS: TRUE; Type of Charger: Linear; Mounting Technology: Surface Mount; Code_JEDEC: MO-229; ComponentLink1Description: Manufacturer URL; ComponentLink1URL: http://www.linear.com/; ComponentLink2Description: Datasheet; ComponentLink2URL: http://cds.linear.com/docs/en/datasheet/405842fs.pdf; ComponentLink3Description: Package Specification; ComponentLink3URL: http://cds.linear.com/docs/en/packaging/DFN_8_05-08-1698.pdf
footprint LT-DD-8_V (SON, 8-Leads, Body 3x3mm, Pitch 0.5mm, Thermal Pad 1.65x2.38 mm)
pins: 1 BSENSE (in) "Battery Sense. This pin is used to Kelvin sense the positive battery terminal and regulate the final float voltage to 4.2V. An internal precision resistor divider sets this float voltage and is disconnected in shutdown mode. (See Datasheet)", 2 BAT (power) "Charge Current Output. Provides charge current to the battery from the internal P-channel MOSFET", 3 ~{CHRG} (hiz) "Charge Status Open-Drain Output. When the battery is charging, the C\H\R\G\ pin is pulled low by an internal N-channel MOSFET. When the charge cycle is completed, C\H\R\G\ becomes high impedance.", 4 GND (power) "Ground/Exposed Pad. The exposed backside of the package (Pin 9) is also ground and must be soldered to the PC board for maximum heat transfer.", 5 PROG (in) "Charge Current Program and Charge Current Monitor. Charge current is programmed by connecting a 1% resistor, RPROG, to ground. When charging in constant-current mode, this pin servos to 1V. In all modes,the voltage on this (See Datasheet)", 6 VCC (power) "Positive Input Supply Voltage. Provides power to the charger. VCC can range from 4.25V to 6.5V. This pin should be bypassed with at least a 1uF capacitor. When VCC is within 100mV of the BSENSE pin voltage, the LTC4058 (See Datasheet)", 7 ~{ACPR} (hiz) "Power Supply Status Open-Drain Output. When VCC is greater than the undervoltage lockout threshold and at least 100mV above VBSENSE, the A\C\P\R\ pin is pulled to ground; otherwise, the pin is high impedance.", 8 ~{EN} (in) "Enable Input . A logic high on the EN pin will put the LTC4058 into shutdown mode where the battery drain current is reduced to less than 2uA and the supply current is reduced to less than 50uA. A logic low or floating the (See Datasheet)", 9 EP (power) "Ground/Exposed Pad. The exposed backside of the package (Pin 9) is also ground and must be soldered to the PC board for maximum heat transfer."

## LTC4058XEDD-4.2
designator U?
Standalone Linear Li-Ion Battery Charger with Thermal Regulation, 4.25 to 6.5 V Vin, 8-pin SON (DD-8), -40 to 85 degC; Manufacturer: Linear Technology; PartNumber: LTC4058XEDD-4.2; Battery Chemistry: Li-Ion, Li-Polymer; Charge Termination: C/10; Float Voltage: 4.2 V; Max Charge Current(A): 0.95; Number of Cells: 1; Vin Max(V): 6.5; Vin Min(V): 4.25; PackageVersion: Jun-10; PackageReference: DD-8; PackageDescription: 8-Pin Plastic DFN, Body 3 x 3 mm, Pitch 0.5 mm; Supplier 1: Digi-Key; Supplier Part Number 1: LTC4058XEDD-4.2-ND; RoHS: FALSE; Type of Charger: Linear; Mounting Technology: Surface Mount; Code_JEDEC: MO-229; ComponentLink1Description: Manufacturer URL; ComponentLink1URL: http://www.linear.com/; ComponentLink2Description: Datasheet; ComponentLink2URL: http://cds.linear.com/docs/en/datasheet/405842fs.pdf; ComponentLink3Description: Package Specification; ComponentLink3URL: http://cds.linear.com/docs/en/packaging/DFN_8_05-08-1698.pdf
footprint LT-DD-8_V (SON, 8-Leads, Body 3x3mm, Pitch 0.5mm, Thermal Pad 1.65x2.38 mm)
pins: 1 BSENSE (in) "Battery Sense. This pin is used to Kelvin sense the positive battery terminal and regulate the final float voltage to 4.2V. An internal precision resistor divider sets this float voltage and is disconnected in shutdown mode. (See Datasheet)", 2 BAT (power) "Charge Current Output. Provides charge current to the battery from the internal P-channel MOSFET", 3 ~{CHRG} (hiz) "Charge Status Open-Drain Output. When the battery is charging, the C\H\R\G\ pin is pulled low by an internal N-channel MOSFET. When the charge cycle is completed, C\H\R\G\ becomes high impedance.", 4 GND (power) "Ground/Exposed Pad. The exposed backside of the package (Pin 9) is also ground and must be soldered to the PC board for maximum heat transfer.", 5 PROG (in) "Charge Current Program and Charge Current Monitor. Charge current is programmed by connecting a 1% resistor, RPROG, to ground. When charging in constant-current mode, this pin servos to 1V. In all modes,the voltage on this (See Datasheet)", 6 VCC (power) "Positive Input Supply Voltage. Provides power to the charger. VCC can range from 4.25V to 6.5V. This pin should be bypassed with at least a 1uF capacitor. When VCC is within 100mV of the BSENSE pin voltage, the LTC4058 (See Datasheet)", 7 ~{ACPR} (hiz) "Power Supply Status Open-Drain Output. When VCC is greater than the undervoltage lockout threshold and at least 100mV above VBSENSE, the A\C\P\R\ pin is pulled to ground; otherwise, the pin is high impedance.", 8 ~{EN} (in) "Enable Input . A logic high on the EN pin will put the LTC4058 into shutdown mode where the battery drain current is reduced to less than 2uA and the supply current is reduced to less than 50uA. A logic low or floating the (See Datasheet)", 9 EP (power) "Ground/Exposed Pad. The exposed backside of the package (Pin 9) is also ground and must be soldered to the PC board for maximum heat transfer."

## LTC4058XEDD-4.2#PBF
designator U?
Standalone Linear Li-Ion Battery Charger with Thermal Regulation, 4.25 to 6.5 V Vin, 8-pin SON (DD-8), -40 to 85 degC, Pb-Free; Manufacturer: Linear Technology; PartNumber: LTC4058XEDD-4.2#PBF; Battery Chemistry: Li-Ion, Li-Polymer; Charge Termination: C/10; Float Voltage: 4.2 V; Max Charge Current(A): 0.95; Number of Cells: 1; Vin Max(V): 6.5; Vin Min(V): 4.25; PackageVersion: Jun-10; PackageReference: DD-8; PackageDescription: 8-Pin Plastic DFN, Body 3 x 3 mm, Pitch 0.5 mm; Supplier 1: Digi-Key; Supplier Part Number 1: LTC4058XEDD-4.2#PBF-ND; Supplier 2: Farnell; Supplier Part Number 2: 1648034; Supplier 3: Newark; Supplier Part Number 3: 58M0878; RoHS: TRUE; Type of Charger: Linear; Mounting Technology: Surface Mount; Code_JEDEC: MO-229; ComponentLink1Description: Manufacturer URL; ComponentLink1URL: http://www.linear.com/; ComponentLink2Description: Datasheet; ComponentLink2URL: http://cds.linear.com/docs/en/datasheet/405842fs.pdf; ComponentLink3Description: Package Specification; ComponentLink3URL: http://cds.linear.com/docs/en/packaging/DFN_8_05-08-1698.pdf
footprint LT-DD-8_V (SON, 8-Leads, Body 3x3mm, Pitch 0.5mm, Thermal Pad 1.65x2.38 mm)
pins: 1 BSENSE (in) "Battery Sense. This pin is used to Kelvin sense the positive battery terminal and regulate the final float voltage to 4.2V. An internal precision resistor divider sets this float voltage and is disconnected in shutdown mode. (See Datasheet)", 2 BAT (power) "Charge Current Output. Provides charge current to the battery from the internal P-channel MOSFET", 3 ~{CHRG} (hiz) "Charge Status Open-Drain Output. When the battery is charging, the C\H\R\G\ pin is pulled low by an internal N-channel MOSFET. When the charge cycle is completed, C\H\R\G\ becomes high impedance.", 4 GND (power) "Ground/Exposed Pad. The exposed backside of the package (Pin 9) is also ground and must be soldered to the PC board for maximum heat transfer.", 5 PROG (in) "Charge Current Program and Charge Current Monitor. Charge current is programmed by connecting a 1% resistor, RPROG, to ground. When charging in constant-current mode, this pin servos to 1V. In all modes,the voltage on this (See Datasheet)", 6 VCC (power) "Positive Input Supply Voltage. Provides power to the charger. VCC can range from 4.25V to 6.5V. This pin should be bypassed with at least a 1uF capacitor. When VCC is within 100mV of the BSENSE pin voltage, the LTC4058 (See Datasheet)", 7 ~{ACPR} (hiz) "Power Supply Status Open-Drain Output. When VCC is greater than the undervoltage lockout threshold and at least 100mV above VBSENSE, the A\C\P\R\ pin is pulled to ground; otherwise, the pin is high impedance.", 8 ~{EN} (in) "Enable Input . A logic high on the EN pin will put the LTC4058 into shutdown mode where the battery drain current is reduced to less than 2uA and the supply current is reduced to less than 50uA. A logic low or floating the (See Datasheet)", 9 EP (power) "Ground/Exposed Pad. The exposed backside of the package (Pin 9) is also ground and must be soldered to the PC board for maximum heat transfer."

## LTC4058XEDD-4.2#TR
designator U?
Standalone Linear Li-Ion Battery Charger with Thermal Regulation, 4.25 to 6.5 V Vin, 8-pin SON (DD-8), -40 to 85 degC, Tape and Reel; Manufacturer: Linear Technology; PartNumber: LTC4058XEDD-4.2#TR; Battery Chemistry: Li-Ion, Li-Polymer; Charge Termination: C/10; Float Voltage: 4.2 V; Max Charge Current(A): 0.95; Number of Cells: 1; Vin Max(V): 6.5; Vin Min(V): 4.25; PackageVersion: Jun-10; PackageReference: DD-8; PackageDescription: 8-Pin Plastic DFN, Body 3 x 3 mm, Pitch 0.5 mm; Supplier 1: Digi-Key; Supplier Part Number 1: LTC4058XEDD-4.2TR-ND; Packing: Tape and Reel; RoHS: FALSE; Type of Charger: Linear; Mounting Technology: Surface Mount; Code_JEDEC: MO-229; ComponentLink1Description: Manufacturer URL; ComponentLink1URL: http://www.linear.com/; ComponentLink2Description: Datasheet; ComponentLink2URL: http://cds.linear.com/docs/en/datasheet/405842fs.pdf; ComponentLink3Description: Package Specification; ComponentLink3URL: http://cds.linear.com/docs/en/packaging/DFN_8_05-08-1698.pdf
footprint LT-DD-8_V (SON, 8-Leads, Body 3x3mm, Pitch 0.5mm, Thermal Pad 1.65x2.38 mm)
pins: 1 BSENSE (in) "Battery Sense. This pin is used to Kelvin sense the positive battery terminal and regulate the final float voltage to 4.2V. An internal precision resistor divider sets this float voltage and is disconnected in shutdown mode. (See Datasheet)", 2 BAT (power) "Charge Current Output. Provides charge current to the battery from the internal P-channel MOSFET", 3 ~{CHRG} (hiz) "Charge Status Open-Drain Output. When the battery is charging, the C\H\R\G\ pin is pulled low by an internal N-channel MOSFET. When the charge cycle is completed, C\H\R\G\ becomes high impedance.", 4 GND (power) "Ground/Exposed Pad. The exposed backside of the package (Pin 9) is also ground and must be soldered to the PC board for maximum heat transfer.", 5 PROG (in) "Charge Current Program and Charge Current Monitor. Charge current is programmed by connecting a 1% resistor, RPROG, to ground. When charging in constant-current mode, this pin servos to 1V. In all modes,the voltage on this (See Datasheet)", 6 VCC (power) "Positive Input Supply Voltage. Provides power to the charger. VCC can range from 4.25V to 6.5V. This pin should be bypassed with at least a 1uF capacitor. When VCC is within 100mV of the BSENSE pin voltage, the LTC4058 (See Datasheet)", 7 ~{ACPR} (hiz) "Power Supply Status Open-Drain Output. When VCC is greater than the undervoltage lockout threshold and at least 100mV above VBSENSE, the A\C\P\R\ pin is pulled to ground; otherwise, the pin is high impedance.", 8 ~{EN} (in) "Enable Input . A logic high on the EN pin will put the LTC4058 into shutdown mode where the battery drain current is reduced to less than 2uA and the supply current is reduced to less than 50uA. A logic low or floating the (See Datasheet)", 9 EP (power) "Ground/Exposed Pad. The exposed backside of the package (Pin 9) is also ground and must be soldered to the PC board for maximum heat transfer."